# Altium schematic symbol library 2024-02-03_23-26-54.SchLib: 1 symbol
Pins are listed as number, name and electrical type; pins without a type are passive.

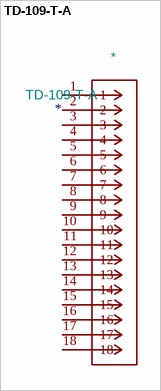
[diagram p0: symbol TD-109-T-A]

## TD-109-T-A
designator *  value TD-109-T-A
ki_fp_filters: CON18_2X9_TU_HTS_SAI; Footprint: CON18_2X9_TU_HTS_SAI; Supplier: TD-109-T-A; ki_keywords: TD-109-T-A
footprint CON18_2X9_TU_HTS_SAI
pins: 1, 2, 3, 4, 5, 6, 7, 8, 9, 10, 11, 12, 13, 14, 15, 16, 17, 18
1 alternate drawing of the same symbol